# EAGLE library part FAN7085_HI-SIDE_GATE_DRIVER (library will)
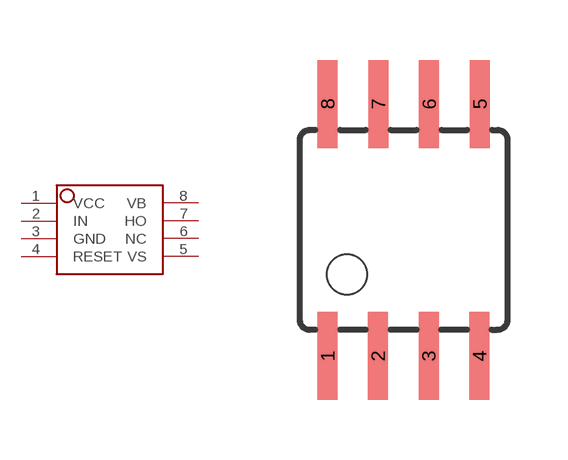
[diagram p5: symbol with the pads of SOIC-8; footprint SOIC-8]

Designator prefix -

## FAN7085_HI-SIDE_GATE_DRIVER  [SOIC-8]
1  VCC
2  IN
3  GND
4  RESET
5  VS
6  NC
7  HO
8  VB

## Footprint SOIC-8 (pad centres in mm)
smd 0.5 x 2.2: 1 -1.905,-3.154; 2 -0.645,-3.154; 3 0.625,-3.154; 4 1.895,-3.154; 5 1.905,3.154; 6 0.635,3.154; 7 -0.635,3.154; 8 -1.905,3.154